# EAGLE library part CC1101-MODULE (library IGVC-Remote)
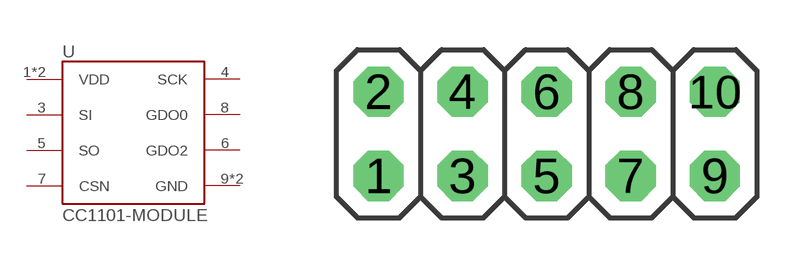
[diagram p0: symbol with the pads of 2X05; footprint 2X05]

Designator prefix U

## CC1101-MODULE  [2X05]
1  VDD
2  VDD
3  SI
4  SCK
5  SO
6  GDO2
7  CSN
8  GDO0
9  GND
10  GND

## Footprint 2X05 (pad centres in mm)
PIN HEADER
drill 1.016 octagon: 1 -5.08,-1.27; 2 -5.08,1.27; 3 -2.54,-1.27; 4 -2.54,1.27; 5 0,-1.27; 6 0,1.27; 7 2.54,-1.27; 8 2.54,1.27; 9 5.08,-1.27; 10 5.08,1.27